# Altium footprint library VALCON_THS-04-R-RAF.PcbLib: 1 footprints
Each footprint in its own frame and in the unit in brackets; x right, y up, seen from the top. Pads: shape width x height; smd on the part's side, far side on the other; paste and mask are expansions set on the pad; w line width, h text height; cw(c..) or ccw(c..) is an arc to the next point about the centre after c.
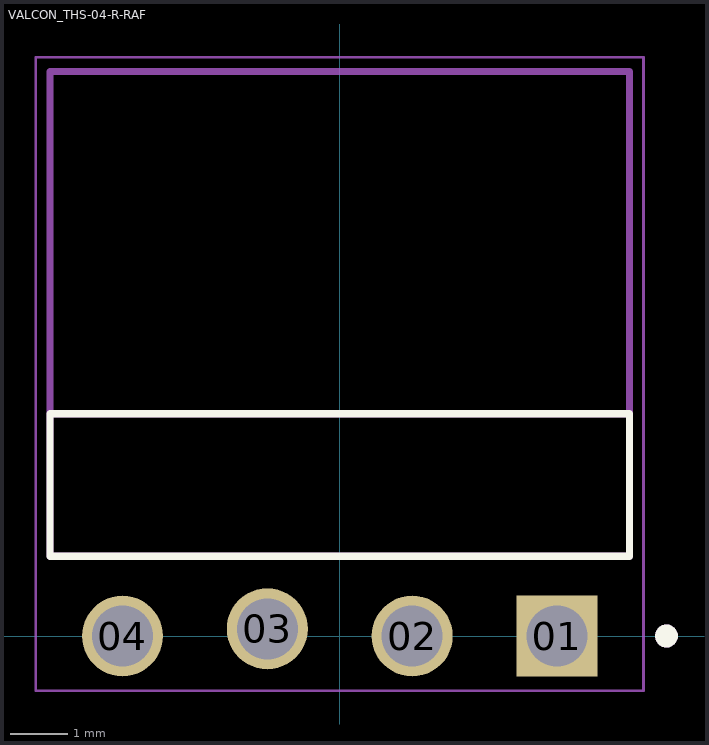
[diagram p0: the footprint, top view; thin cyan lines are the x and y axes]

## VALCON_THS-04-R-RAF [mm]
pads (4):
  rect 1.42x1.42 hole 1.07: 01(3.81,0)
  round 1.42 hole 1.07: 02(1.27,0) 03(-1.27,0.127) 04(-3.81,0)
Top Overlay:
  circle w0.2: c5.73,0 r0.1
  lines w0.127: -5.08,1.4 5.08,1.4 5.08,3.9 -5.08,3.9 -5.08,1.4
Mechanical 13:
  circle w0.2: c5.73,0 r0.1
  lines w0.127: -5.08,1.4 -5.08,9.9 5.08,9.9 5.08,1.4 ; -5.08,1.4 5.08,1.4 ; -5.08,1.4 -5.08,3.9 5.08,3.9 5.08,1.4
Mechanical 15:
  lines w0.05: -5.33,-0.96 5.33,-0.96 5.33,10.15 -5.33,10.15 -5.33,-0.96
3D body "Header 4.STEP": height 4.23, standoff -5.99, extent -5.08,-1.27 5.08,4.23